# Altium footprint library RayPCB20210502.PcbLib: 227 footprints (part 3 of 15)
Each footprint in its own frame and in the unit in brackets; x right, y up, seen from the top. Pads: shape width x height; smd on the part's side, far side on the other; paste and mask are expansions set on the pad; w line width, h text height; cw(c..) or ccw(c..) is an arc to the next point about the centre after c.
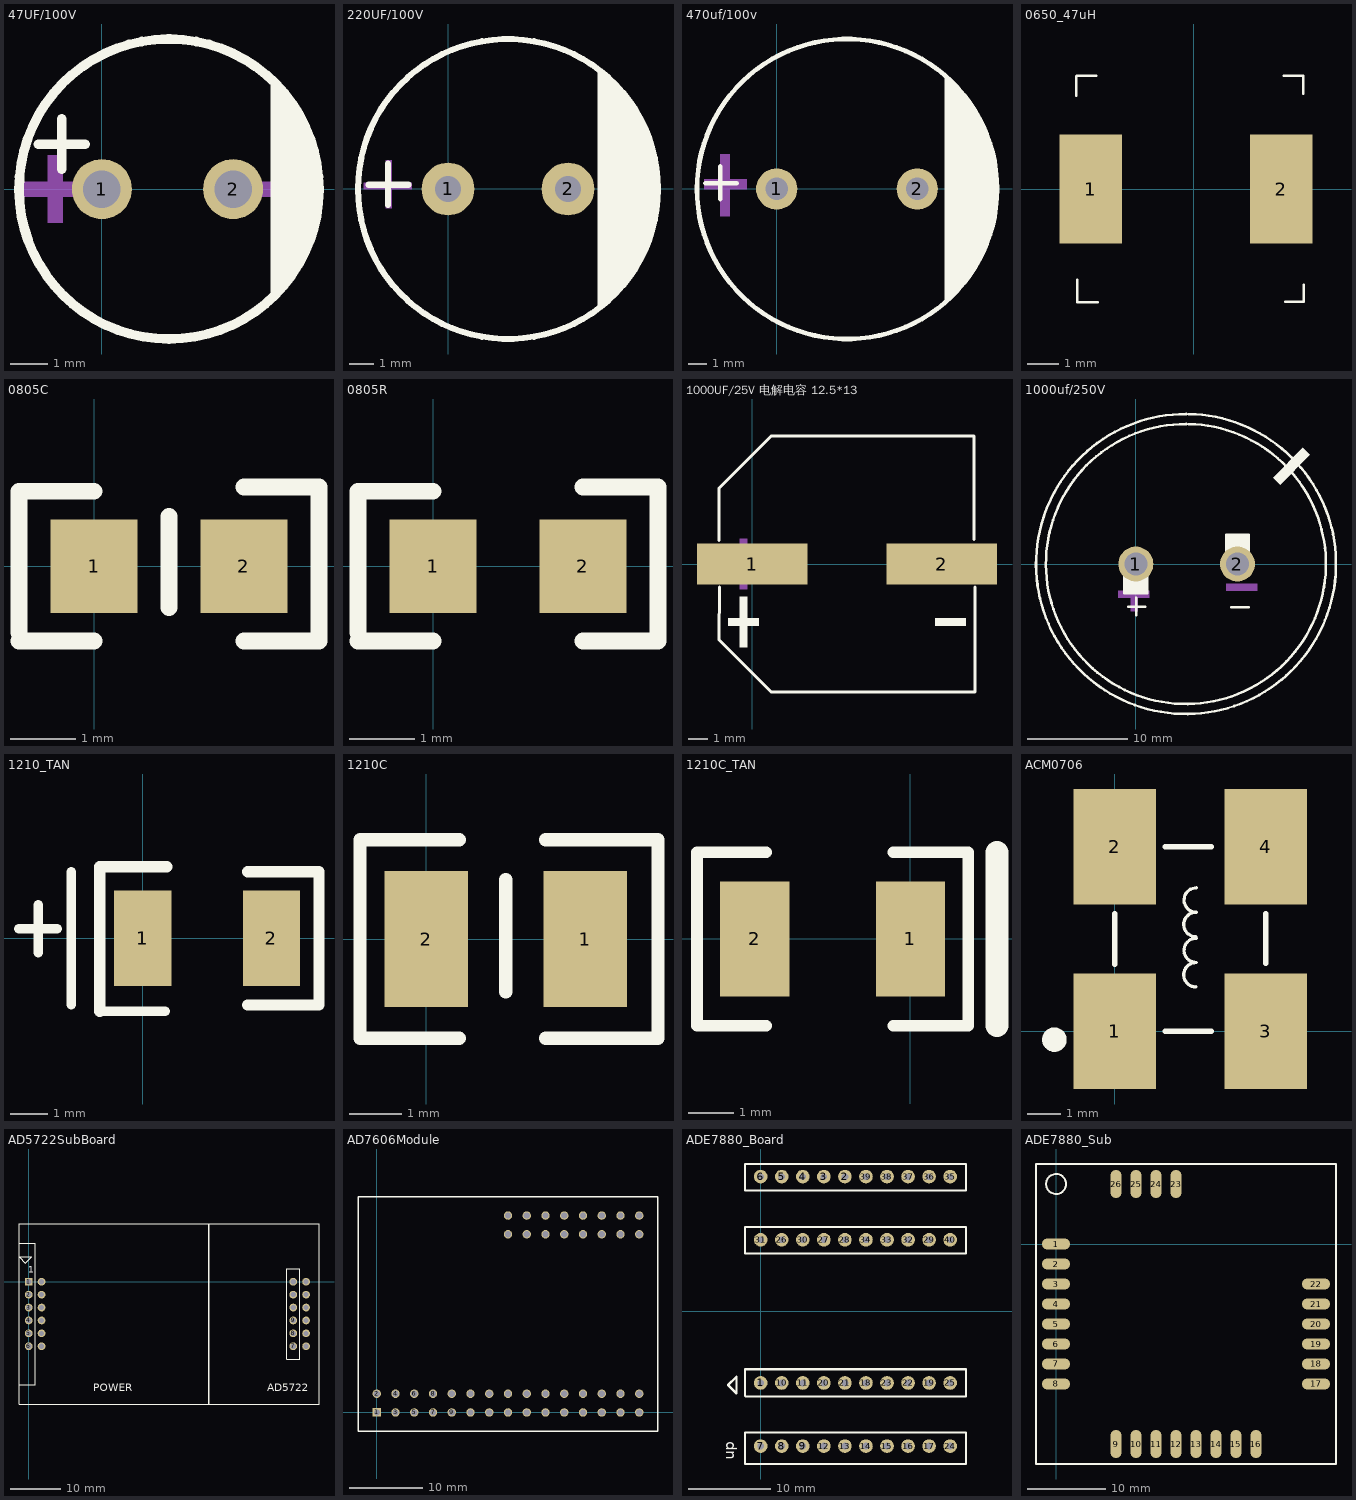
[diagram p2: the footprints below, top view; thin cyan lines are the x and y axes]

## 47UF/100V [mm] "8*14"
pads (2):
  round 1.6 hole 1: 1(0,0) 2(3.5,0)
Top Overlay:
  region: 4.5,-3 4.691,-2.8 5.018,-2.355 5.286,-1.872 5.492,-1.359 5.63,-0.824 5.7,-0.276 5.7,0.276 5.63,0.824 5.492,1.359 5.286,1.872 5.018,2.355 4.691,2.8 4.5,3
  lines w0.254: -1.695,1.2 -0.45,1.2 ; -1.072,0.527 -1.072,1.873 ; 1.753,4 ccw(c1.788,0.001) 1.824,4
Mechanical 15:
  region: 5.25,0.2 3.85,0.2 3.85,-0.2 5.45,-0.2 5.65,-0.2 5.65,0.2
  region: -0.75,0.2 -2.15,0.2 -2.15,-0.2 -0.55,-0.2 -0.35,-0.2 -0.35,0.2
  region: -1.45,0.5 -1.45,-0.9 -1.05,-0.9 -1.05,0.7 -1.05,0.9 -1.45,0.9

## 220UF/100V [mm] "13*21"
pads (2):
  round 2.2 hole 1.1: 1(0,0) 2(5,0)
Top Overlay:
  circle w0.254: c2.5,0 r6.25
  region: 6.25,5 6.25,-5 6.982,-4.268 7.192,-4.058 7.568,-3.6 7.897,-3.107 8.177,-2.584 8.404,-2.036 8.576,-1.468 8.692,-0.887 8.75,-0.297 8.75,0 8.75,0.296 8.692,0.887 8.576,1.468 8.404,2.036 8.177,2.584 7.897,3.106 7.568,3.6 7.192,4.058 6.982,4.268
  lines w0.254: -3.317,0.178 -1.64,0.178 ; -2.504,-0.661 -2.504,1.067
Mechanical 15:
  region: -3.5,0.25 -1.5,0.25 -1.5,0 -3.5,0
  region: -2.592,-0.811 -2.592,1.189 -2.342,1.189 -2.342,-0.811

## 470uf/100v [mm] "电解电容"
pads (2):
  round 2.2 hole 1.2: 1(0,0) 2(7.5,0)
Top Overlay:
  circle w0.254: c3.75,0 r8
  region: 8.957,-6.096 9.285,-5.814 9.876,-5.182 10.396,-4.49 10.839,-3.746 11.2,-2.96 11.474,-2.139 11.658,-1.293 11.751,-0.433 11.751,0.433 11.658,1.293 11.474,2.139 11.2,2.959 10.839,3.746 10.396,4.49 9.876,5.181 9.285,5.813 8.957,6.096
  lines w0.254: -3.803,0.305 -2.127,0.305 ; -3.016,-0.534 -3.016,1.194
Mechanical 15:
  region: 11.45,-0.2 9.164,-0.2 9.164,0.308 11.45,0.308
  region: -3.004,1.851 -2.496,1.851 -2.496,-1.451 -3.004,-1.451
  region: -3.87,0.508 -1.584,0.508 -1.584,0 -3.87,0

## 0650_47uH [mm]
pads (2):
  rect 2x3.5 smd: 1(-3.302,0) 2(2.794,0)
Top Overlay:
  lines w0.076: -3.76,2.989 -3.76,3.611 ; -3.746,3.624 -3.124,3.624 ; -3.734,-3.624 -3.734,-2.904 ; -3.721,-3.624 -3.073,-3.624 ; 2.87,3.624 3.492,3.624 3.492,3.04 ; 2.918,-3.609 3.318,-3.609 3.518,-3.609 3.518,-3.067

## 0805C [mil]
pads (2):
  rect 52x56 smd: 1(0,0) 2(90,0)
Top Overlay:
  lines w10: -45,-45 0,-45 ; -45,-40 -45,45 0,45 ; 45,-25 45,30 ; 90,-45 135,-45 135,47.5 90,47.5

## 0805R [mil]
pads (2):
  rect 52x56 smd: 1(0,0) 2(90,0)
Top Overlay:
  lines w10: -45,-45 0,-45 ; -45,-40 -45,45 0,45 ; 90,-45 135,-45 135,47.5 90,47.5

## 1000UF/25V 电解电容 12.5*13 [mm]
pads (2):
  rect 5.6x2.1 smd: 1(0,0) 2(9.59,0)
Top Overlay:
  region: -1.221,-3.136 0.315,-3.136 0.315,-2.752 -1.221,-2.752
  region: 9.275,-3.136 10.811,-3.136 10.811,-2.752 9.275,-2.752
  region: -0.645,-4.224 -0.261,-4.224 -0.261,-1.664 -0.645,-1.664
  lines w0.152: -1.686,1.181 -1.681,3.84 0.955,6.476 11.221,6.476 11.221,1.245 ; -1.661,-1.177 -1.681,-3.84 0.955,-6.476 11.271,-6.476 11.264,-1.156
Mechanical 15:
  region: -0.645,-1.28 -0.261,-1.28 -0.261,1.28 -0.645,1.28
  region: 9.275,-0.192 10.811,-0.192 10.811,0.192 9.275,0.192
  region: -1.221,-0.192 0.315,-0.192 0.315,0.192 -1.221,0.192

## 1000uf/250V [mm]
pads (2):
  round 3.5 hole 2.3: 1(0,0) 2(10.16,0)
Top Overlay:
  region: 11.303,1.27 9.017,1.27 9.017,2.794 11.303,2.794
  region: 1.016,-2.921 -1.143,-2.921 -1.143,-1.27 1.016,-1.27
  region: 13.716,8.636 16.7,11.62 17.399,10.922 14.414,7.938
  lines w0.254: -1.143,-1.27 -1.143,-2.921 1.143,-2.921 1.143,-1.27 ; -0.762,-4.267 0.914,-4.267 ; 0.025,-5.105 0.025,-3.378 ; 5.029,14 ccw(c5.005,0.001) 5.273,13.998 ; 5.029,15.001 ccw(c5.014,0.001) 5.291,14.999 ; 9.017,1.27 9.017,2.921 11.303,2.921 11.303,1.27 ; 9.525,-4.318 11.303,-4.318
Mechanical 15:
  region: -1.77,-2.65 1.33,-2.65 1.33,-3.35 -1.77,-3.35
  region: -0.52,-4.7 -0.52,-1.6 0.18,-1.6 0.18,-4.7
  region: 9.057,-1.986 12.157,-1.986 12.157,-2.686 9.057,-2.686

## 1210_TAN [mil] "钽电容00UF/16V"
pads (2):
  rect 60x100 smd: 1(0,0) 2(135,0)
Top Overlay:
  lines w10: -130,10 -90,10 ; -110,-15 -110,35 ; -75,-70 -75,70 ; -45,-76.43 23.57,-76.43
  lines w12: -45,-76.43 -45,75 25,75 ; 110,-70 185,-70 185,70 110,70

## 1210C [mil]
pads (2):
  rect 63x103 smd: 1(120,0) 2(0,0)
Top Overlay:
  lines w10: 25,-75 0,-75 -50,-75 -50,75 0,75 25,75 ; 60,-40 60,45 ; 90,-75 175,-75 175,75 90,75

## 1210C_TAN [mil]
pads (2):
  rect 60x100 smd: 1(0,0) 2(-135,0)
Top Overlay:
  lines w10: -125,-75 -185,-75 -185,75 -125,75 ; -15,-75 50,-75 50,75 -15,75
  lines w20: 75,-75 75,75

## ACM0706 [mm]
pads (4):
  rect 2.5x3.5 smd: 1(0,0) 2(0,5.588) 3(4.572,0) 4(4.572,5.588)
Top Overlay:
  circle w0.381: c-1.831,-0.254 r0.18
  lines w0.1: 2.456,1.343 cw(c2.456,1.712) 2.466,2.081 cw(c2.466,2.45) 2.477,2.819 ; 2.456,2.867 cw(c2.456,3.236) 2.466,3.605 cw(c2.466,3.974) 2.477,4.343
  lines w0.16: 0,2.032 0,3.556 ; 1.524,0 2.921,0 ; 1.524,5.588 2.921,5.588 ; 4.572,2.057 4.572,3.556

## AD5722SubBoard [mil]
pads (24):
  rect 60x60 hole 40: 1(0,0)
  round 60 hole 40: 2(0,-100) 3(0,-200) 4(0,-300) 5(0,-400) 6(0,-500) 7(2050,-500) 8(2050,-400) 9(2050,-300) 10(2050,-200) 11(2050,-100) 12(2050,0) 13(2150,0) 14(2150,-100) 15(2150,-200) 16(2150,-300) 17(2150,-400) 18(2150,-500) 19(100,-500) 20(100,-400) 21(100,-300) 22(100,-200) 23(100,-100) 24(100,0)
Top Overlay:
  lines w8: -70,-800 50,-800 50,300 -70,300 ; -75,-950 -75,450 2250,450 2250,-950 -75,-950 ; -75,195 25,195 -25,145 -75,195 ; 2000,-600 2100,-600 2100,100 2000,100 2000,-600
  lines w10: 1395,-950 1395,450
  text "1" at -5,70 h50
  text "POWER" at 500,-850 h60
  text "AD5722" at 1850,-850 h60

## AD7606Module [mil]
pads (46):
  rect 45x45 hole 32: 1(0,0)
  round 45 hole 33: 2(0,100) 3(100,0) 4(100,100) 5(200,0) 6(200,100) 7(300,0) 8(300,100) 9(400,0) 10(400,100) 11(500,0) 12(500,100) 13(600,0) 14(600,100) 15(700,0) 16(700,100) 17(800,0) 18(800,100) 19(900,0) 20(900,100) 21(1000,0) 22(1000,100) 23(1100,0) 24(1100,100) 25(1200,0) 26(1200,100) 27(1300,0) 28(1300,100) 29(1400,0) 30(1400,100) 31(1400,1050) 32(1400,950) 33(1300,1050) 34(1300,950) 35(1200,1050) 36(1200,950) 37(1100,1050) 38(1100,950) 39(1000,1050) 40(1000,950) 41(900,1050) 42(900,950) 43(800,1050) 44(800,950) 45(700,1050) 46(700,950)
Top Overlay:
  lines w8: -100,-100 -100,1150 1500,1150 1500,-100 -100,-100

## ADE7880_Board [mil]
pads (40):
  round 65 hole 32: 1(0,-340) 2(400,640) 3(300,640) 4(200,640) 5(100,640) 6(0,640) 7(0,-640) 8(100,-640) 9(200,-640) 10(100,-340) 11(200,-340) 12(300,-640) 13(400,-640) 14(500,-640) 15(600,-640) 16(700,-640) 17(800,-640) 18(500,-340) 19(800,-340) 20(300,-340) 21(400,-340) 22(700,-340) 23(600,-340) 24(900,-640) 25(900,-340) 26(100,340) 27(300,340) 28(400,340) 29(800,340) 30(200,340) 31(0,340) 32(700,340) 33(600,340) 34(500,340) 35(900,640) 36(800,640) 37(700,640) 38(600,640) 39(500,640) 40(900,340)
Top Overlay:
  lines w10: -155,-350 -115,-390 -115,-310 -155,-350 ; -75,-725 -75,-575 975,-575 975,-725 -75,-725 ; -75,-400 -75,-275 975,-275 975,-405 -70,-405 -75,-400 ; -75,275 -75,400 975,400 975,275 -75,275 ; -75,575 -75,700 975,700 975,575 -75,575
  text "up" at -125,-705 h50

## ADE7880_Sub [mil]
pads (26):
  oval 140x55 smd: 1(0,0) 2(0,-100) 3(0,-200) 4(0,-300) 5(0,-400) 6(0,-500) 7(0,-600) 8(0,-700) 17(1300,-700) 18(1300,-600) 19(1300,-500) 20(1300,-400) 21(1300,-300) 22(1300,-200)
  oval 55x140 smd: 9(300,-1000) 10(400,-1000) 11(500,-1000) 12(600,-1000) 13(700,-1000) 14(800,-1000) 15(900,-1000) 16(1000,-1000) 23(600,300) 24(500,300) 25(400,300) 26(300,300)
Top Overlay:
  circle w10: c0,300 r50
  lines w10: -100,-1100 1400,-1100 1400,400 -100,400 -100,-1100